# Altium integrated library LTST-S220TBKT.IntLib: 1 symbol
Pins are listed as number, name and electrical type; pins without a type are passive.

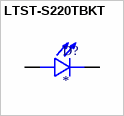
[diagram p0: symbol LTST-S220TBKT]

## LTST-S220TBKT
designator D?
MP: LTST-S220TBKT; Package: None; Price: None; Value: *; Availability: Unavailable
footprint LED_LTST-S220TBKT
pins: A, C